# Altium schematic symbol library CD4051BE.SchLib: 1 symbol
Pins are listed as number, name and electrical type; pins without a type are passive.

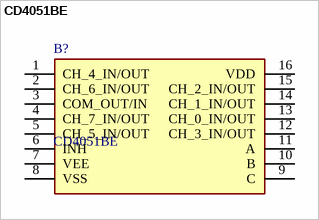
[diagram p0: symbol CD4051BE]

## CD4051BE
designator B?
TEXAS INSTRUMENTS - CD4051BE - MULTIPLEXER, 8 CHANNEL, 16DIP; Geometry.Height: 5.08mm; Mouser Part Number: 595-CD4051BE; Mouser Price/Stock: https://www.mouser.co.uk/ProductDetail/Texas-Instruments/CD4051BE?qs=q2XTDbzbm6DxulBsMcV7tA%3D%3D; Manufacturer_Name: Texas Instruments; Manufacturer_Part_Number: CD4051BE; Datasheet Link: http://www.ti.com/lit/ds/symlink/cd4051b.pdf
footprint DIP794W53P254L1930H508Q16N
pins: 1 CH_4_IN/OUT, 2 CH_6_IN/OUT, 3 COM_OUT/IN, 4 CH_7_IN/OUT, 5 CH_5_IN/OUT, 6 INH, 7 VEE, 8 VSS, 9 C, 10 B, 11 A, 12 CH_3_IN/OUT, 13 CH_0_IN/OUT, 14 CH_1_IN/OUT, 15 CH_2_IN/OUT, 16 VDD